# Altium footprint library OpenChill_PCB_Library.PcbLib: 7 footprints
Each footprint in its own frame and in the unit in brackets; x right, y up, seen from the top. Pads: shape width x height; smd on the part's side, far side on the other; paste and mask are expansions set on the pad; w line width, h text height; cw(c..) or ccw(c..) is an arc to the next point about the centre after c.
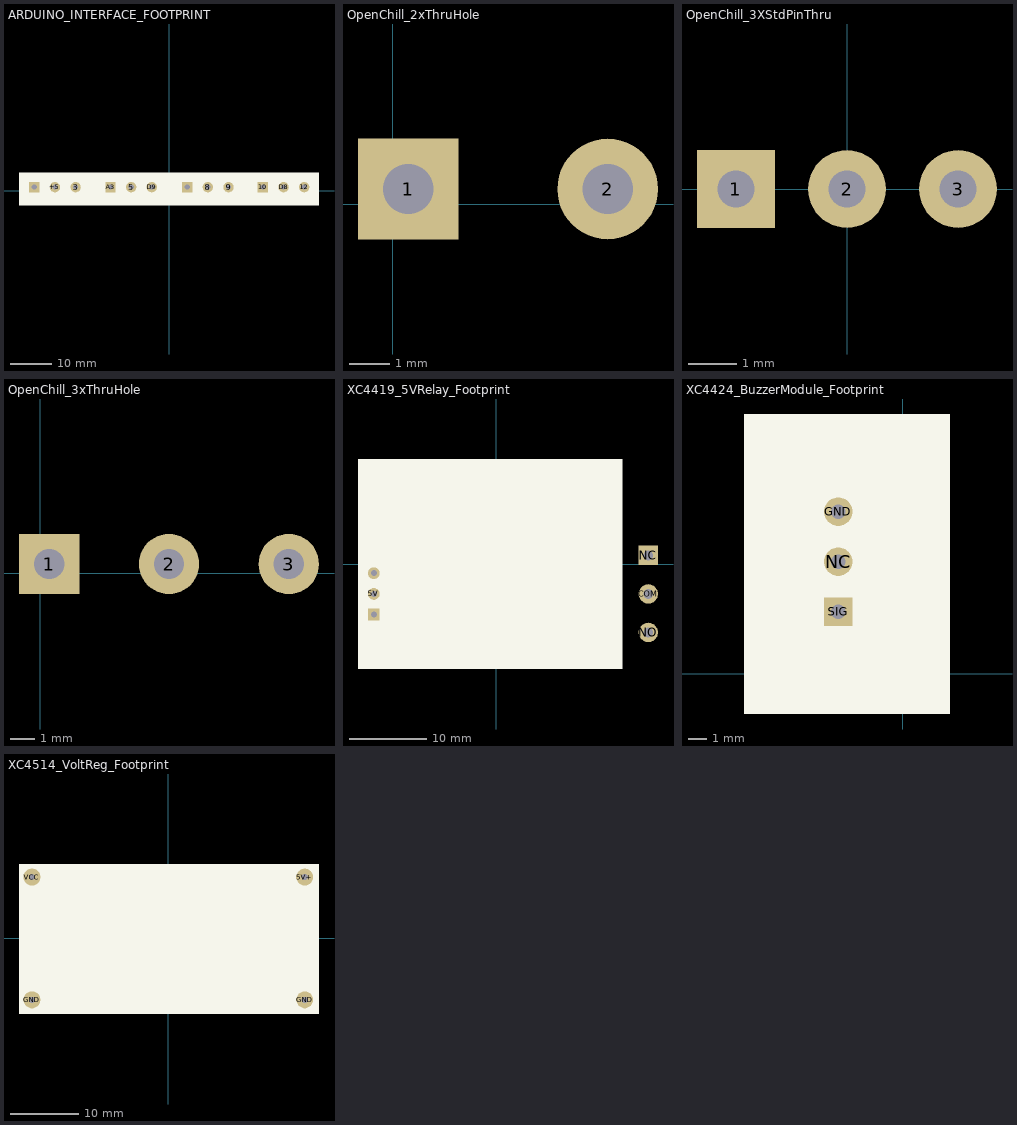
[diagram p0: the footprints below, top view; thin cyan lines are the x and y axes]

## ARDUINO_INTERFACE_FOOTPRINT [mm]
pads (12):
  round 2.5 hole 1.25: 3(-22.479,0.889) 5(-9.144,0.889) 8(9.271,0.889) 9(14.224,0.889) 12(32.385,0.889) +5(-27.432,0.889) D8(27.432,0.889) D9(-4.191,0.889)
  rect 2.5x2.5 hole 1.25: 10(22.479,0.889) A3(-14.097,0.889) D10(4.318,0.889) GND(-32.385,0.889)
Top Overlay:
  rectangle: -36.059,-3.556 35.941,4.444

## OpenChill_2xThruHole [mm]
pads (2):
  rect 2.5x2.5 hole 1.25: 1(0.381,0.381)
  round 2.5 hole 1.25: 2(5.334,0.381)

## OpenChill_3XStdPinThru [mm]
pads (3):
  rect 1.6x1.6 hole 0.762: 1(-2.286,0)
  round 1.6 hole 0.762: 2(0,0) 3(2.286,0)

## OpenChill_3xThruHole [mm]
pads (3):
  rect 2.5x2.5 hole 1.25: 1(0.381,0.381)
  round 2.5 hole 1.25: 2(5.334,0.381) 3(10.287,0.381)

## XC4419_5VRelay_Footprint [mil]
pads (6):
  round 60 hole 30: 5V(-620,-150) SIGNAL(-620,-45)
  round 98.43 hole 49.21: COM(770,-150) NO(770,-345)
  rect 60x60 hole 30: GND(-620,-255)
  rect 98.43x98.43 hole 49.21: NC(770,45)
Top Overlay:
  rectangle: -700,-530 638.58,532.99

## XC4424_BuzzerModule_Footprint [mil]
pads (3):
  round 60 hole 30: GND(-135,340) NC(-135,235)
  rect 60x60 hole 30: SIG(-135,130)
Top Overlay:
  rectangle: -333.07,-84.92 100,545

## XC4514_VoltReg_Footprint [mm]
pads (4):
  round 2.5 hole 0.9: 5V+(20,9) GND(-20,-9) GND(20,-9) VCC(-20,9)
Top Overlay:
  rectangle: -21.902,-11.078 22.098,10.922